# EAGLE library part TMC2660 (library TMC2660-Eval_v30)
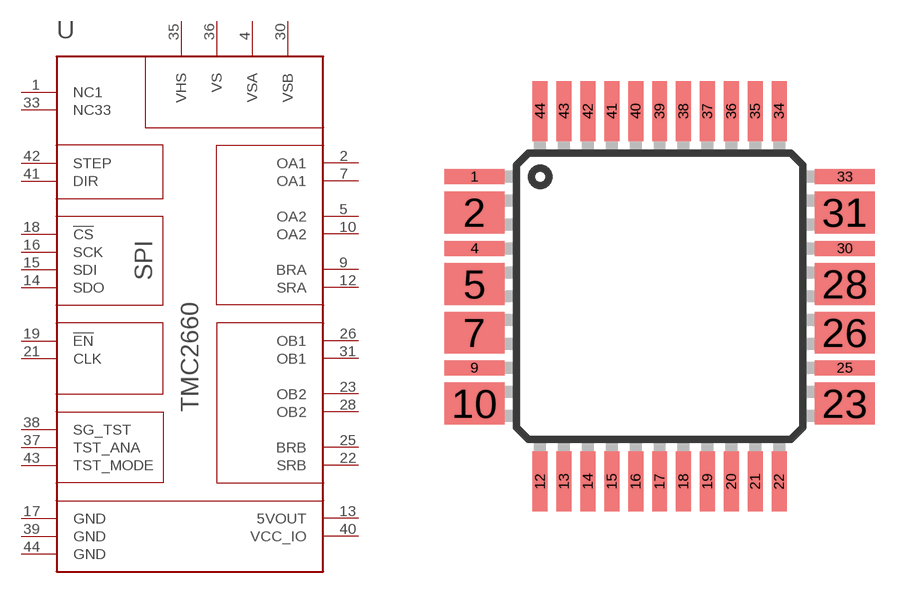
[diagram p0: symbol with the pads of TMC2660; footprint TMC2660]

Designator prefix -

## TMC2660  [TMC2660]
1  NC1  in
2  OA1  out
4  VSA  in
5  OA2  out
7  OA1  out
9  BRA  in
10  OA2  out
12  SRA  in
13  5VOUT  out
14  SDO  hiz
15  SDI  in
16  SCK  in
17  GND  in
18  !CS  in
19  !EN  in
21  CLK  in
22  SRB  in
23  OB2  out
25  BRB  in
26  OB1  out
28  OB2  out
30  VSB  in
31  OB1  out
33  NC33  in
35  VHS  in
36  VS  in
37  TST_ANA  out
38  SG_TST  out
39  GND  in
40  VCC_IO  in
41  DIR  in
42  STEP  in
43  TST_MODE  in
44  GND  in

## Footprint TMC2660 (pad centres in mm)
Edited: Repositioned to center x: +0.127 y: -0.254
smd 2 x 0.5: 1 -6.2,4; 4 -6.2,1.6; 9 -6.2,-2.4; 25 6.2,-2.4; 30 6.2,1.6; 33 6.2,4
smd 2 x 1.4: 2 -6.2,2.806; 5 -6.2,0.406; 7 -6.2,-1.219; 10 -6.2,-3.594; 23 6.2,-3.594; 26 6.2,-1.219; 28 6.2,0.406; 31 6.2,2.806
smd 0.5 x 2: 12 -4,-6.2; 13 -3.2,-6.2; 14 -2.4,-6.2; 15 -1.6,-6.2; 16 -0.8,-6.2; 17 0,-6.2; 18 0.8,-6.2; 19 1.6,-6.2; 20 2.4,-6.2; 21 3.2,-6.2; 22 4,-6.2; 34 4,6.2; 35 3.2,6.2; 36 2.4,6.2; 37 1.6,6.2; 38 0.8,6.2; 39 0,6.2; 40 -0.8,6.2; 41 -1.6,6.2; 42 -2.4,6.2; 43 -3.2,6.2; 44 -4,6.2